# Altium footprint library MX1.25.PcbLib: 64 footprints (part 1 of 4)
Each footprint in its own frame and in the unit in brackets; x right, y up, seen from the top. Pads: shape width x height; smd on the part's side, far side on the other; paste and mask are expansions set on the pad; w line width, h text height; cw(c..) or ccw(c..) is an arc to the next point about the centre after c.
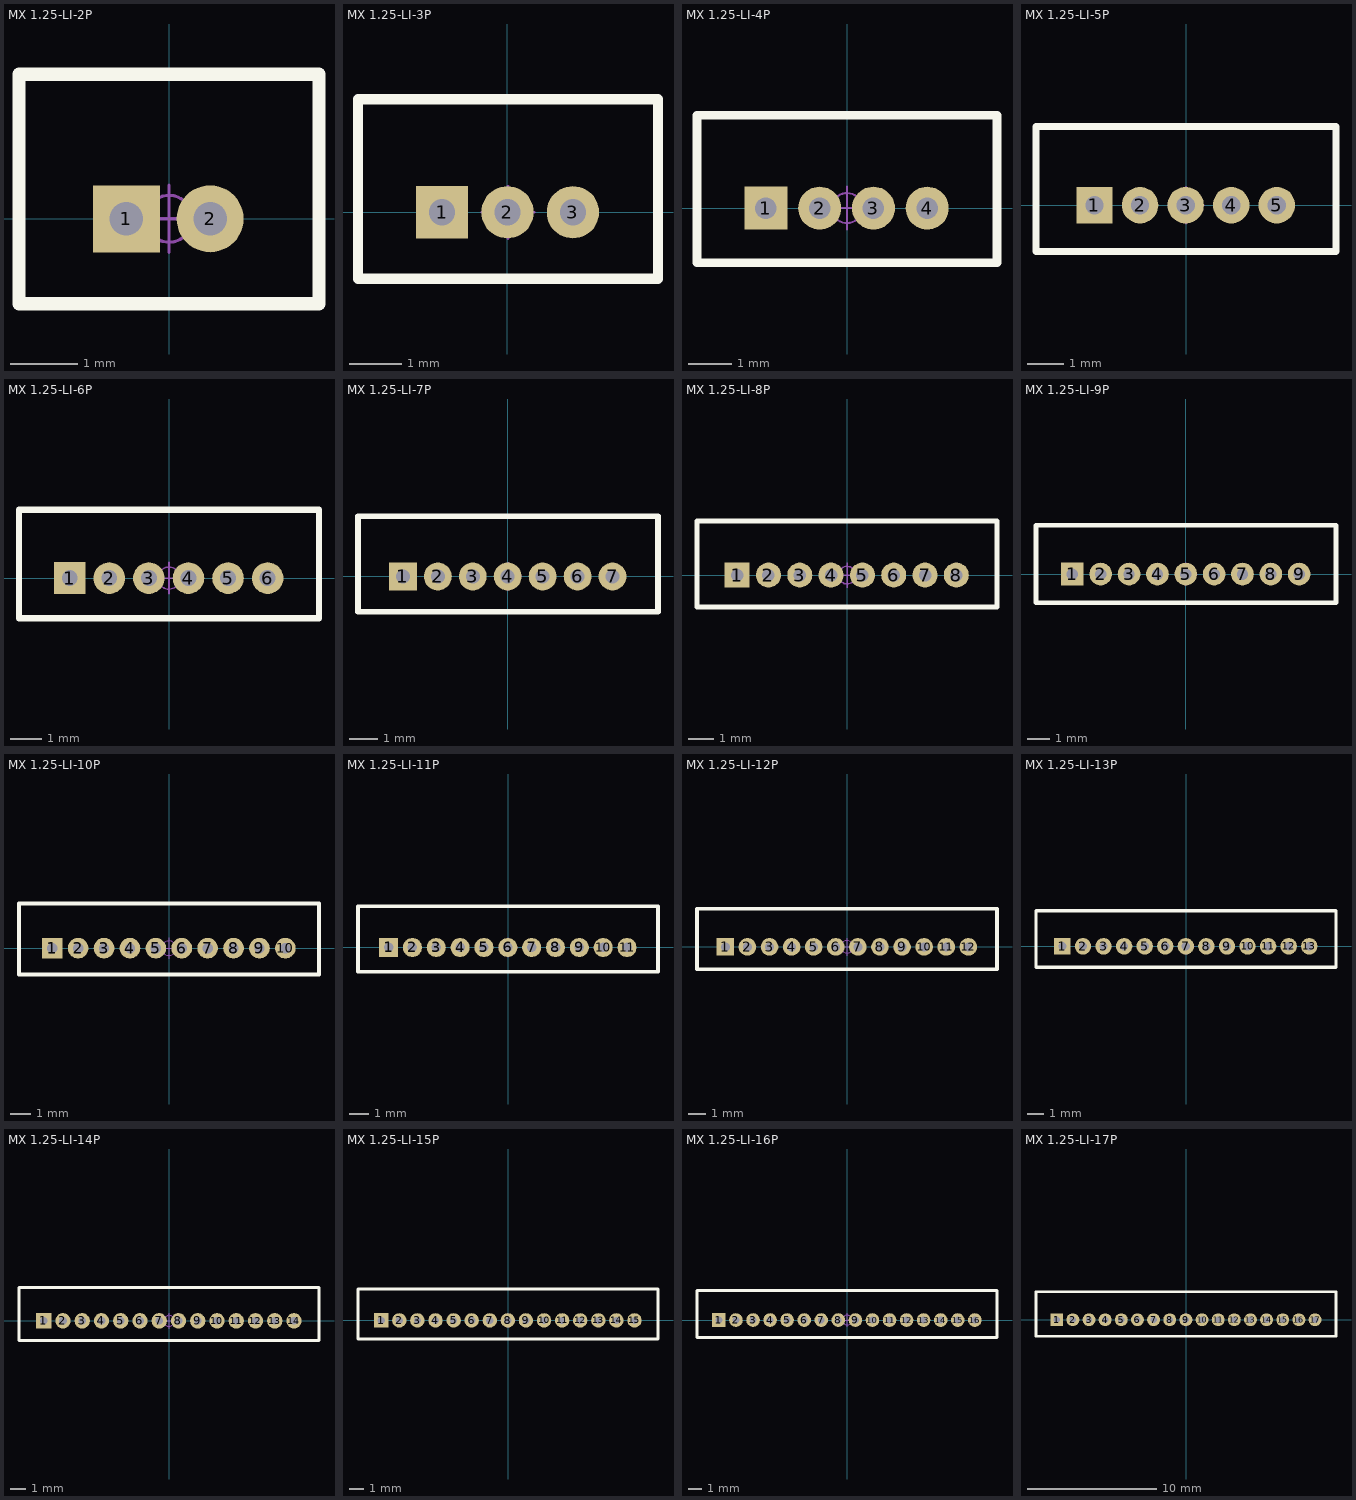
[diagram p0: the footprints below, top view; thin cyan lines are the x and y axes]

## MX 1.25-LI-2P [mm] "长：4.25mm，宽：3.2mm，高：4.2mm"
pads (2):
  rect 1x1 hole 0.5: 1(-0.635,0)
  round 1 hole 0.5: 2(0.615,0)
Top Overlay:
  lines w0.2: -2.239,-1.27 2.239,-1.27 2.239,2.159 -2.239,2.159 -2.239,-1.27
Mechanical 15:
  circle w0.05: c0,0 r0.35
  lines w0.05: -0.5,0 0.5,0 ; 0,-0.5 0,0.5
3D body: height 4.25, standoff -2.35, extent -2.125,-1.15 2.125,2.05

## MX 1.25-LI-3P [mm] "长：5.5mm，宽：3.2mm，高：4.2mm"
pads (3):
  rect 1x1 hole 0.5: 1(-1.25,0)
  round 1 hole 0.5: 2(0,0) 3(1.25,0)
Top Overlay:
  lines w0.2: -2.854,-1.27 2.874,-1.27 2.874,2.159 -2.854,2.159 -2.854,-1.27
Mechanical 15:
  circle w0.05: c0.01,0 r0.35
  lines w0.05: -0.49,0 0.51,0 ; 0.01,-0.5 0.01,0.5
3D body: height 4.25, standoff -2.35, extent -2.74,-1.15 2.76,2.05

## MX 1.25-LI-4P [mm] "长：6.75mm，宽：3.2mm，高：4.2mm"
pads (4):
  rect 1x1 hole 0.5: 1(-1.885,0)
  round 1 hole 0.5: 2(-0.635,0) 3(0.615,0) 4(1.865,0)
Top Overlay:
  lines w0.2: -3.489,-1.27 3.489,-1.27 3.489,2.159 -3.489,2.159 -3.489,-1.27
Mechanical 15:
  circle w0.05: c0,0 r0.35
  lines w0.05: -0.5,0 0.5,0 ; 0,-0.5 0,0.5
3D body: height 4.25, standoff -2.35, extent -3.375,-1.15 3.375,2.05

## MX 1.25-LI-5P [mm] "长：8mm，宽：3.2mm，高：4.2mm"
pads (5):
  rect 1x1 hole 0.5: 1(-2.51,0)
  round 1 hole 0.5: 2(-1.26,0) 3(-0.01,0) 4(1.24,0) 5(2.49,0)
Top Overlay:
  lines w0.2: -4.114,-1.27 4.114,-1.27 4.114,2.159 -4.114,2.159 -4.114,-1.27
Mechanical 15:
  circle w0.05: c0,0 r0.35
  lines w0.05: -0.5,0 0.5,0 ; 0,-0.5 0,0.5
3D body: height 4.25, standoff -2.35, extent -4,-1.15 4,2.05

## MX 1.25-LI-6P [mm] "长：9.25mm，宽：3.2mm，高：4.2mm"
pads (6):
  rect 1x1 hole 0.5: 1(-3.135,0)
  round 1 hole 0.5: 2(-1.885,0) 3(-0.635,0) 4(0.615,0) 5(1.865,0) 6(3.115,0)
Top Overlay:
  lines w0.2: -4.739,-1.27 -4.739,2.159 4.739,2.159 4.739,-1.27 -4.739,-1.27
Mechanical 15:
  circle w0.05: c0,0 r0.35
  lines w0.05: -0.5,0 0.5,0 ; 0,-0.5 0,0.5
3D body: height 4.25, standoff -2.35, extent -4.625,-1.15 4.625,2.05

## MX 1.25-LI-7P [mm] "长：10.5mm，宽：3.2mm，高：4.2mm"
pads (7):
  rect 1x1 hole 0.5: 1(-3.75,0)
  round 1 hole 0.5: 2(-2.5,0) 3(-1.25,0) 4(0,0) 5(1.25,0) 6(2.5,0) 7(3.75,0)
Top Overlay:
  lines w0.2: -5.354,-1.27 5.374,-1.27 5.374,2.159 -5.354,2.159 -5.354,-1.27
Mechanical 15:
  circle w0.05: c0.01,0 r0.35
  lines w0.05: -0.49,0 0.51,0 ; 0.01,-0.5 0.01,0.5
3D body: height 4.25, standoff -2.35, extent -5.24,-1.15 5.26,2.05

## MX 1.25-LI-8P [mm] "长：11.75mm，宽：3.2mm，高：4.2mm"
pads (8):
  rect 1x1 hole 0.5: 1(-4.385,0)
  round 1 hole 0.5: 2(-3.135,0) 3(-1.885,0) 4(-0.635,0) 5(0.615,0) 6(1.865,0) 7(3.115,0) 8(4.365,0)
Top Overlay:
  lines w0.2: -5.989,-1.27 -5.989,2.159 5.989,2.159 5.989,-1.27 -5.989,-1.27
Mechanical 15:
  circle w0.05: c0,0 r0.35
  lines w0.05: -0.5,0 0.5,0 ; 0,-0.5 0,0.5
3D body: height 4.25, standoff -2.35, extent -5.875,-1.15 5.875,2.05

## MX 1.25-LI-9P [mm] "长：13mm，宽：3.2mm，高：4.2mm"
pads (9):
  rect 1x1 hole 0.5: 1(-5,0)
  round 1 hole 0.5: 2(-3.75,0) 3(-2.5,0) 4(-1.25,0) 5(0,0) 6(1.25,0) 7(2.5,0) 8(3.75,0) 9(5,0)
Top Overlay:
  lines w0.2: -6.604,-1.27 -6.604,2.159 6.624,2.159 6.624,-1.27 -6.604,-1.27
Mechanical 15:
  circle w0.05: c0.01,0 r0.35
  lines w0.05: -0.49,0 0.51,0 ; 0.01,-0.5 0.01,0.5
3D body: height 4.25, standoff -2.35, extent -6.49,-1.15 6.51,2.05

## MX 1.25-LI-10P [mm] "长：14.25mm，宽：3.2mm，高：4.2mm"
pads (10):
  rect 1x1 hole 0.5: 1(-5.635,0)
  round 1 hole 0.5: 2(-4.385,0) 3(-3.135,0) 4(-1.885,0) 5(-0.635,0) 6(0.615,0) 7(1.865,0) 8(3.115,0) 9(4.365,0) 10(5.615,0)
Top Overlay:
  lines w0.2: -7.239,-1.27 7.239,-1.27 7.239,2.159 -7.239,2.159 -7.239,-1.27
Mechanical 15:
  circle w0.05: c0,0 r0.35
  lines w0.05: -0.5,0 0.5,0 ; 0,-0.5 0,0.5
3D body: height 4.25, standoff -2.35, extent -7.125,-1.15 7.125,2.05

## MX 1.25-LI-11P [mm] "长：15.5mm，宽：3.2mm，高：4.2mm"
pads (11):
  rect 1x1 hole 0.5: 1(-6.26,0)
  round 1 hole 0.5: 2(-5.01,0) 3(-3.76,0) 4(-2.51,0) 5(-1.26,0) 6(-0.01,0) 7(1.24,0) 8(2.49,0) 9(3.74,0) 10(4.99,0) 11(6.24,0)
Top Overlay:
  lines w0.2: -7.864,-1.27 7.864,-1.27 7.864,2.159 -7.864,2.159 -7.864,-1.27
Mechanical 15:
  circle w0.05: c0,0 r0.35
  lines w0.05: -0.5,0 0.5,0 ; 0,-0.5 0,0.5
3D body: height 4.25, standoff -2.35, extent -7.75,-1.15 7.75,2.05

## MX 1.25-LI-12P [mm] "长：16.75mm，宽：3.2mm，高：4.2mm"
pads (12):
  rect 1x1 hole 0.5: 1(-6.885,0)
  round 1 hole 0.5: 2(-5.635,0) 3(-4.385,0) 4(-3.135,0) 5(-1.885,0) 6(-0.635,0) 7(0.615,0) 8(1.865,0) 9(3.115,0) 10(4.365,0) 11(5.615,0) 12(6.865,0)
Top Overlay:
  lines w0.2: -8.489,-1.27 -8.489,2.159 8.489,2.159 8.489,-1.27 -8.489,-1.27
Mechanical 15:
  circle w0.05: c0,0 r0.35
  lines w0.05: -0.5,0 0.5,0 ; 0,-0.5 0,0.5
3D body: height 4.25, standoff -2.35, extent -8.375,-1.15 8.375,2.05

## MX 1.25-LI-13P [mm] "长：18mm，宽：3.2mm，高：4.2mm"
pads (13):
  rect 1x1 hole 0.5: 1(-7.51,0)
  round 1 hole 0.5: 2(-6.26,0) 3(-5.01,0) 4(-3.76,0) 5(-2.51,0) 6(-1.26,0) 7(-0.01,0) 8(1.24,0) 9(2.49,0) 10(3.74,0) 11(4.99,0) 12(6.24,0) 13(7.49,0)
Top Overlay:
  lines w0.2: -9.114,-1.27 -9.114,2.159 9.114,2.159 9.114,-1.27 -9.114,-1.27
Mechanical 15:
  circle w0.05: c0,0 r0.35
  lines w0.05: -0.5,0 0.5,0 ; 0,-0.5 0,0.5
3D body: height 4.25, standoff -2.35, extent -9,-1.15 9,2.05

## MX 1.25-LI-14P [mm] "长：19.25mm，宽：3.2mm，高：4.2mm"
pads (14):
  rect 1x1 hole 0.5: 1(-8.135,0)
  round 1 hole 0.5: 2(-6.885,0) 3(-5.635,0) 4(-4.385,0) 5(-3.135,0) 6(-1.885,0) 7(-0.635,0) 8(0.615,0) 9(1.865,0) 10(3.115,0) 11(4.365,0) 12(5.615,0) 13(6.865,0) 14(8.115,0)
Top Overlay:
  lines w0.2: -9.739,-1.27 -9.739,2.159 9.739,2.159 9.739,-1.27 -9.739,-1.27
Mechanical 15:
  circle w0.05: c0,0 r0.35
  lines w0.05: -0.5,0 0.5,0 ; 0,-0.5 0,0.5
3D body: height 4.25, standoff -2.35, extent -9.625,-1.15 9.625,2.05

## MX 1.25-LI-15P [mm] "长：20.5mm，宽：3.2mm，高：4.2mm"
pads (15):
  rect 1x1 hole 0.5: 1(-8.76,0)
  round 1 hole 0.5: 2(-7.51,0) 3(-6.26,0) 4(-5.01,0) 5(-3.76,0) 6(-2.51,0) 7(-1.26,0) 8(-0.01,0) 9(1.24,0) 10(2.49,0) 11(3.74,0) 12(4.99,0) 13(6.24,0) 14(7.49,0) 15(8.74,0)
Top Overlay:
  lines w0.2: -10.364,-1.27 10.364,-1.27 10.364,2.159 -10.364,2.159 -10.364,-1.27
Mechanical 15:
  circle w0.05: c0,0 r0.35
  lines w0.05: -0.5,0 0.5,0 ; 0,-0.5 0,0.5
3D body: height 4.25, standoff -2.35, extent -10.25,-1.15 10.25,2.05

## MX 1.25-LI-16P [mm] "长：21.75mm，宽：3.2mm，高：4.2mm"
pads (16):
  rect 1x1 hole 0.5: 1(-9.385,0)
  round 1 hole 0.5: 2(-8.135,0) 3(-6.885,0) 4(-5.635,0) 5(-4.385,0) 6(-3.135,0) 7(-1.885,0) 8(-0.635,0) 9(0.615,0) 10(1.865,0) 11(3.115,0) 12(4.365,0) 13(5.615,0) 14(6.865,0) 15(8.115,0) 16(9.365,0)
Top Overlay:
  lines w0.2: -10.989,-1.27 10.989,-1.27 10.989,2.159 -10.989,2.159 -10.989,-1.27
Mechanical 15:
  circle w0.05: c0,0 r0.35
  lines w0.05: -0.5,0 0.5,0 ; 0,-0.5 0,0.5
3D body: height 4.25, standoff -2.35, extent -10.875,-1.15 10.875,2.05

## MX 1.25-LI-17P [mm] "长：23mm，宽：3.2mm，高：4.2mm"
pads (17):
  rect 1x1 hole 0.5: 1(-10.01,0)
  round 1 hole 0.5: 2(-8.76,0) 3(-7.51,0) 4(-6.26,0) 5(-5.01,0) 6(-3.76,0) 7(-2.51,0) 8(-1.26,0) 9(-0.01,0) 10(1.24,0) 11(2.49,0) 12(3.74,0) 13(4.99,0) 14(6.24,0) 15(7.49,0) 16(8.74,0) 17(9.99,0)
Top Overlay:
  lines w0.2: -11.614,-1.27 -11.614,2.159 11.614,2.159 11.614,-1.27 -11.614,-1.27
Mechanical 15:
  circle w0.05: c0,0 r0.35
  lines w0.05: -0.5,0 0.5,0 ; 0,-0.5 0,0.5
3D body: height 4.25, standoff -2.35, extent -11.5,-1.15 11.5,2.05